# Altium footprint library CONN_HDR_2.54MM_ST.PcbLib: 159 footprints (part 3 of 13)
Each footprint in its own frame and in the unit in brackets; x right, y up, seen from the top. Pads: shape width x height; smd on the part's side, far side on the other; paste and mask are expansions set on the pad; w line width, h text height; cw(c..) or ccw(c..) is an arc to the next point about the centre after c.
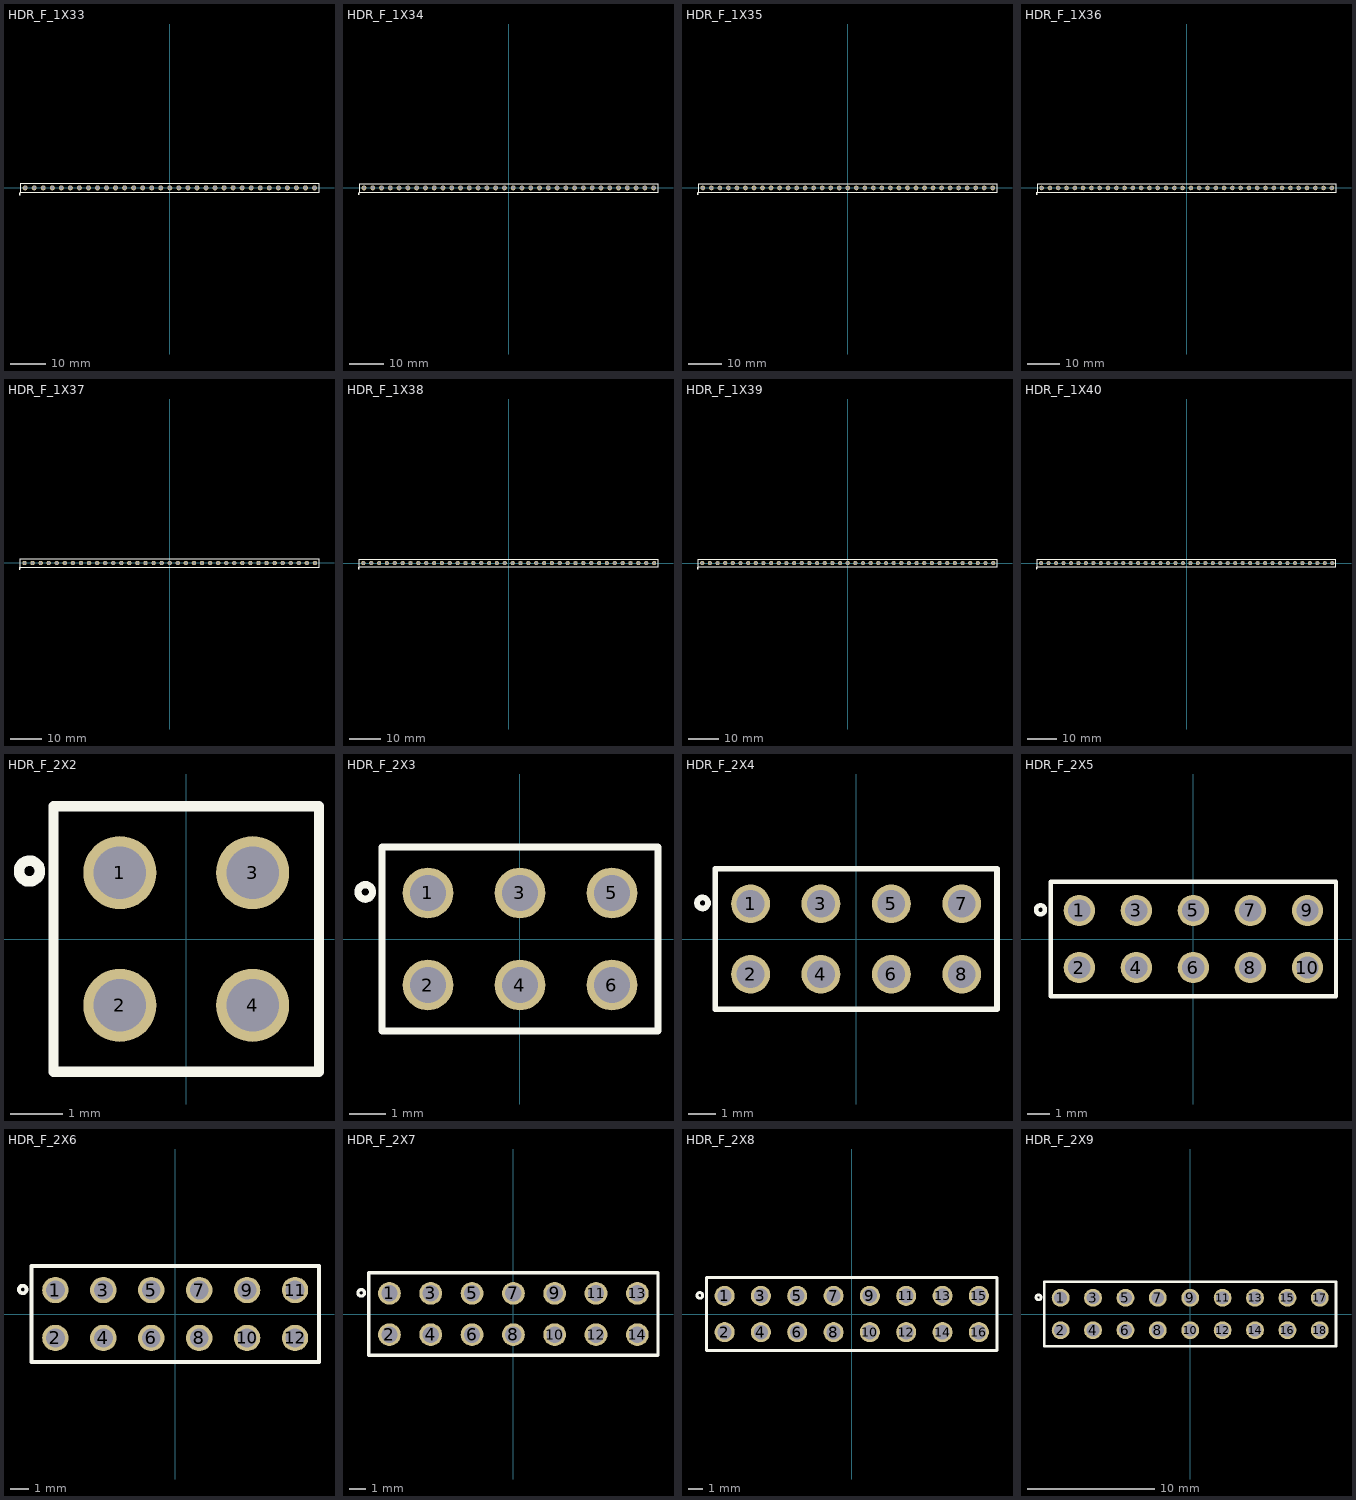
[diagram p2: the footprints below, top view; thin cyan lines are the x and y axes]

## HDR_F_1X33 [mm] "Connector; Header; 33 Position"
height 8
pads (33):
  round 1.4 / inner round 1.4 / far side oval 1.4x2.2 hole 1: 1(-40.64,0) 2(-38.1,0) 3(-35.56,0) 4(-33.02,0) 5(-30.48,0) 6(-27.94,0) 7(-25.4,0) 8(-22.86,0) 9(-20.32,0) 10(-17.78,0) 11(-15.24,0) 12(-12.7,0) 13(-10.16,0) 14(-7.62,0) 15(-5.08,0) 16(-2.54,0) 17(0,0) 18(2.54,0) 19(5.08,0) 20(7.62,0) 21(10.16,0) 22(12.7,0) 23(15.24,0) 24(17.78,0) 25(20.32,0) 26(22.86,0) 27(25.4,0) 28(27.94,0) 29(30.48,0) 30(33.02,0) 31(35.56,0) 32(38.1,0) 33(40.64,0)
TopOverlay:
  circle w0.2: c-42.17,-1.7 r0.2
  lines w0.2: -41.91,-1.27 -41.91,1.27 41.91,1.27 41.91,-1.27 -41.91,-1.27
3D body "PBS-1.stp": height 8.5, standoff -3.15, extent 39.37,-1.27 41.91,1.27
3D body "PBD-2.stp": height 8.5, standoff -3.15, extent -41.91,-1.27 -36.83,1.27
3D body "PBD-2.stp": height 8.5, standoff -3.15, extent -36.83,-1.27 -31.75,1.27
3D body "PBD-2.stp": height 8.5, standoff -3.15, extent -31.75,-1.27 -26.67,1.27
3D body "PBD-2.stp": height 8.5, standoff -3.15, extent -26.67,-1.27 -21.59,1.27
3D body "PBD-2.stp": height 8.5, standoff -3.15, extent -21.59,-1.27 -16.51,1.27
3D body "PBD-2.stp": height 8.5, standoff -3.15, extent -16.51,-1.27 -11.43,1.27
3D body "PBD-2.stp": height 8.5, standoff -3.15, extent -11.43,-1.27 -6.35,1.27
3D body "PBD-2.stp": height 8.5, standoff -3.15, extent -6.35,-1.27 -1.27,1.27
3D body "PBD-2.stp": height 8.5, standoff -3.15, extent -1.27,-1.27 3.81,1.27
3D body "PBD-2.stp": height 8.5, standoff -3.15, extent 3.81,-1.27 8.89,1.27
3D body "PBD-2.stp": height 8.5, standoff -3.15, extent 8.89,-1.27 13.97,1.27
3D body "PBD-2.stp": height 8.5, standoff -3.15, extent 13.97,-1.27 19.05,1.27
3D body "PBD-2.stp": height 8.5, standoff -3.15, extent 19.05,-1.27 24.13,1.27
3D body "PBD-2.stp": height 8.5, standoff -3.15, extent 24.13,-1.27 29.21,1.27
3D body "PBD-2.stp": height 8.5, standoff -3.15, extent 29.21,-1.27 34.29,1.27
3D body "PBD-2.stp": height 8.5, standoff -3.15, extent 34.29,-1.27 39.37,1.27

## HDR_F_1X34 [mm] "Connector; Header; 34 Position"
height 8
pads (34):
  round 1.4 / inner round 1.4 / far side oval 1.4x2.2 hole 1: 1(-41.91,0) 2(-39.37,0) 3(-36.83,0) 4(-34.29,0) 5(-31.75,0) 6(-29.21,0) 7(-26.67,0) 8(-24.13,0) 9(-21.59,0) 10(-19.05,0) 11(-16.51,0) 12(-13.97,0) 13(-11.43,0) 14(-8.89,0) 15(-6.35,0) 16(-3.81,0) 17(-1.27,0) 18(1.27,0) 19(3.81,0) 20(6.35,0) 21(8.89,0) 22(11.43,0) 23(13.97,0) 24(16.51,0) 25(19.05,0) 26(21.59,0) 27(24.13,0) 28(26.67,0) 29(29.21,0) 30(31.75,0) 31(34.29,0) 32(36.83,0) 33(39.37,0) 34(41.91,0)
TopOverlay:
  circle w0.2: c-43.44,-1.7 r0.2
  lines w0.2: -43.18,-1.27 43.18,-1.27 43.18,1.27 -43.18,1.27 -43.18,-1.27
3D body "PBD-2.stp": height 8.5, standoff -3.15, extent -43.18,-1.27 -38.1,1.27
3D body "PBD-2.stp": height 8.5, standoff -3.15, extent -38.1,-1.27 -33.02,1.27
3D body "PBD-2.stp": height 8.5, standoff -3.15, extent -33.02,-1.27 -27.94,1.27
3D body "PBD-2.stp": height 8.5, standoff -3.15, extent -27.94,-1.27 -22.86,1.27
3D body "PBD-2.stp": height 8.5, standoff -3.15, extent -22.86,-1.27 -17.78,1.27
3D body "PBD-2.stp": height 8.5, standoff -3.15, extent -17.78,-1.27 -12.7,1.27
3D body "PBD-2.stp": height 8.5, standoff -3.15, extent -12.7,-1.27 -7.62,1.27
3D body "PBD-2.stp": height 8.5, standoff -3.15, extent -7.62,-1.27 -2.54,1.27
3D body "PBD-2.stp": height 8.5, standoff -3.15, extent -2.54,-1.27 2.54,1.27
3D body "PBD-2.stp": height 8.5, standoff -3.15, extent 2.54,-1.27 7.62,1.27
3D body "PBD-2.stp": height 8.5, standoff -3.15, extent 7.62,-1.27 12.7,1.27
3D body "PBD-2.stp": height 8.5, standoff -3.15, extent 12.7,-1.27 17.78,1.27
3D body "PBD-2.stp": height 8.5, standoff -3.15, extent 17.78,-1.27 22.86,1.27
3D body "PBD-2.stp": height 8.5, standoff -3.15, extent 22.86,-1.27 27.94,1.27
3D body "PBD-2.stp": height 8.5, standoff -3.15, extent 27.94,-1.27 33.02,1.27
3D body "PBD-2.stp": height 8.5, standoff -3.15, extent 33.02,-1.27 38.1,1.27
3D body "PBD-2.stp": height 8.5, standoff -3.15, extent 38.1,-1.27 43.18,1.27

## HDR_F_1X35 [mm] "Connector; Header; 35 Position"
height 8
pads (35):
  round 1.4 / inner round 1.4 / far side oval 1.4x2.2 hole 1: 1(-43.18,0) 2(-40.64,0) 3(-38.1,0) 4(-35.56,0) 5(-33.02,0) 6(-30.48,0) 7(-27.94,0) 8(-25.4,0) 9(-22.86,0) 10(-20.32,0) 11(-17.78,0) 12(-15.24,0) 13(-12.7,0) 14(-10.16,0) 15(-7.62,0) 16(-5.08,0) 17(-2.54,0) 18(0,0) 19(2.54,0) 20(5.08,0) 21(7.62,0) 22(10.16,0) 23(12.7,0) 24(15.24,0) 25(17.78,0) 26(20.32,0) 27(22.86,0) 28(25.4,0) 29(27.94,0) 30(30.48,0) 31(33.02,0) 32(35.56,0) 33(38.1,0) 34(40.64,0) 35(43.18,0)
TopOverlay:
  circle w0.2: c-44.71,-1.7 r0.2
  lines w0.2: -44.45,-1.27 -44.45,1.27 44.45,1.27 44.45,-1.27 -44.45,-1.27
3D body "PBD-2.stp": height 8.5, standoff -3.15, extent 36.83,-1.27 41.91,1.27
3D body "PBD-2.stp": height 8.5, standoff -3.15, extent 31.75,-1.27 36.83,1.27
3D body "PBD-2.stp": height 8.5, standoff -3.15, extent 26.67,-1.27 31.75,1.27
3D body "PBD-2.stp": height 8.5, standoff -3.15, extent 21.59,-1.27 26.67,1.27
3D body "PBD-2.stp": height 8.5, standoff -3.15, extent 16.51,-1.27 21.59,1.27
3D body "PBD-2.stp": height 8.5, standoff -3.15, extent 11.43,-1.27 16.51,1.27
3D body "PBD-2.stp": height 8.5, standoff -3.15, extent 6.35,-1.27 11.43,1.27
3D body "PBD-2.stp": height 8.5, standoff -3.15, extent 1.27,-1.27 6.35,1.27
3D body "PBD-2.stp": height 8.5, standoff -3.15, extent -3.81,-1.27 1.27,1.27
3D body "PBD-2.stp": height 8.5, standoff -3.15, extent -8.89,-1.27 -3.81,1.27
3D body "PBD-2.stp": height 8.5, standoff -3.15, extent -13.97,-1.27 -8.89,1.27
3D body "PBD-2.stp": height 8.5, standoff -3.15, extent -19.05,-1.27 -13.97,1.27
3D body "PBD-2.stp": height 8.5, standoff -3.15, extent -24.13,-1.27 -19.05,1.27
3D body "PBD-2.stp": height 8.5, standoff -3.15, extent -29.21,-1.27 -24.13,1.27
3D body "PBD-2.stp": height 8.5, standoff -3.15, extent -34.29,-1.27 -29.21,1.27
3D body "PBD-2.stp": height 8.5, standoff -3.15, extent -39.37,-1.27 -34.29,1.27
3D body "PBD-2.stp": height 8.5, standoff -3.15, extent -44.45,-1.27 -39.37,1.27
3D body "PBS-1.stp": height 8.5, standoff -3.15, extent 41.91,-1.27 44.45,1.27

## HDR_F_1X36 [mm] "Connector; Header; 36 Position"
height 8
pads (36):
  round 1.4 / inner round 1.4 / far side oval 1.4x2.2 hole 1: 1(-44.45,0) 2(-41.91,0) 3(-39.37,0) 4(-36.83,0) 5(-34.29,0) 6(-31.75,0) 7(-29.21,0) 8(-26.67,0) 9(-24.13,0) 10(-21.59,0) 11(-19.05,0) 12(-16.51,0) 13(-13.97,0) 14(-11.43,0) 15(-8.89,0) 16(-6.35,0) 17(-3.81,0) 18(-1.27,0) 19(1.27,0) 20(3.81,0) 21(6.35,0) 22(8.89,0) 23(11.43,0) 24(13.97,0) 25(16.51,0) 26(19.05,0) 27(21.59,0) 28(24.13,0) 29(26.67,0) 30(29.21,0) 31(31.75,0) 32(34.29,0) 33(36.83,0) 34(39.37,0) 35(41.91,0) 36(44.45,0)
TopOverlay:
  circle w0.2: c-45.98,-1.7 r0.2
  lines w0.2: -45.72,-1.27 45.72,-1.27 45.72,1.27 -45.72,1.27 -45.72,-1.27
3D body "PBD-2.stp": height 8.5, standoff -3.15, extent -45.72,-1.27 -40.64,1.27
3D body "PBD-2.stp": height 8.5, standoff -3.15, extent -40.64,-1.27 -35.56,1.27
3D body "PBD-2.stp": height 8.5, standoff -3.15, extent -35.56,-1.27 -30.48,1.27
3D body "PBD-2.stp": height 8.5, standoff -3.15, extent -30.48,-1.27 -25.4,1.27
3D body "PBD-2.stp": height 8.5, standoff -3.15, extent -25.4,-1.27 -20.32,1.27
3D body "PBD-2.stp": height 8.5, standoff -3.15, extent -20.32,-1.27 -15.24,1.27
3D body "PBD-2.stp": height 8.5, standoff -3.15, extent -15.24,-1.27 -10.16,1.27
3D body "PBD-2.stp": height 8.5, standoff -3.15, extent -10.16,-1.27 -5.08,1.27
3D body "PBD-2.stp": height 8.5, standoff -3.15, extent -5.08,-1.27 0,1.27
3D body "PBD-2.stp": height 8.5, standoff -3.15, extent 0,-1.27 5.08,1.27
3D body "PBD-2.stp": height 8.5, standoff -3.15, extent 5.08,-1.27 10.16,1.27
3D body "PBD-2.stp": height 8.5, standoff -3.15, extent 10.16,-1.27 15.24,1.27
3D body "PBD-2.stp": height 8.5, standoff -3.15, extent 15.24,-1.27 20.32,1.27
3D body "PBD-2.stp": height 8.5, standoff -3.15, extent 20.32,-1.27 25.4,1.27
3D body "PBD-2.stp": height 8.5, standoff -3.15, extent 25.4,-1.27 30.48,1.27
3D body "PBD-2.stp": height 8.5, standoff -3.15, extent 30.48,-1.27 35.56,1.27
3D body "PBD-2.stp": height 8.5, standoff -3.15, extent 35.56,-1.27 40.64,1.27
3D body "PBD-2.stp": height 8.5, standoff -3.15, extent 40.64,-1.27 45.72,1.27

## HDR_F_1X37 [mm] "Connector; Header; 37 Position"
height 8
pads (37):
  round 1.4 / inner round 1.4 / far side oval 1.4x2.2 hole 1: 1(-45.72,0) 2(-43.18,0) 3(-40.64,0) 4(-38.1,0) 5(-35.56,0) 6(-33.02,0) 7(-30.48,0) 8(-27.94,0) 9(-25.4,0) 10(-22.86,0) 11(-20.32,0) 12(-17.78,0) 13(-15.24,0) 14(-12.7,0) 15(-10.16,0) 16(-7.62,0) 17(-5.08,0) 18(-2.54,0) 19(0,0) 20(2.54,0) 21(5.08,0) 22(7.62,0) 23(10.16,0) 24(12.7,0) 25(15.24,0) 26(17.78,0) 27(20.32,0) 28(22.86,0) 29(25.4,0) 30(27.94,0) 31(30.48,0) 32(33.02,0) 33(35.56,0) 34(38.1,0) 35(40.64,0) 36(43.18,0) 37(45.72,0)
TopOverlay:
  circle w0.2: c-47.25,-1.7 r0.2
  lines w0.2: -46.99,-1.27 46.99,-1.27 46.99,1.27 -46.99,1.27 -46.99,-1.27
3D body "PBS-1.stp": height 8.5, standoff -3.15, extent 44.45,-1.27 46.99,1.27
3D body "PBD-2.stp": height 8.5, standoff -3.15, extent -46.99,-1.27 -41.91,1.27
3D body "PBD-2.stp": height 8.5, standoff -3.15, extent -41.91,-1.27 -36.83,1.27
3D body "PBD-2.stp": height 8.5, standoff -3.15, extent -36.83,-1.27 -31.75,1.27
3D body "PBD-2.stp": height 8.5, standoff -3.15, extent -31.75,-1.27 -26.67,1.27
3D body "PBD-2.stp": height 8.5, standoff -3.15, extent -26.67,-1.27 -21.59,1.27
3D body "PBD-2.stp": height 8.5, standoff -3.15, extent -21.59,-1.27 -16.51,1.27
3D body "PBD-2.stp": height 8.5, standoff -3.15, extent -16.51,-1.27 -11.43,1.27
3D body "PBD-2.stp": height 8.5, standoff -3.15, extent -11.43,-1.27 -6.35,1.27
3D body "PBD-2.stp": height 8.5, standoff -3.15, extent -6.35,-1.27 -1.27,1.27
3D body "PBD-2.stp": height 8.5, standoff -3.15, extent -1.27,-1.27 3.81,1.27
3D body "PBD-2.stp": height 8.5, standoff -3.15, extent 3.81,-1.27 8.89,1.27
3D body "PBD-2.stp": height 8.5, standoff -3.15, extent 8.89,-1.27 13.97,1.27
3D body "PBD-2.stp": height 8.5, standoff -3.15, extent 13.97,-1.27 19.05,1.27
3D body "PBD-2.stp": height 8.5, standoff -3.15, extent 19.05,-1.27 24.13,1.27
3D body "PBD-2.stp": height 8.5, standoff -3.15, extent 24.13,-1.27 29.21,1.27
3D body "PBD-2.stp": height 8.5, standoff -3.15, extent 29.21,-1.27 34.29,1.27
3D body "PBD-2.stp": height 8.5, standoff -3.15, extent 34.29,-1.27 39.37,1.27
3D body "PBD-2.stp": height 8.5, standoff -3.15, extent 39.37,-1.27 44.45,1.27

## HDR_F_1X38 [mm] "Connector; Header; 38 Position"
height 8
pads (38):
  round 1.4 / inner round 1.4 / far side oval 1.4x2.2 hole 1: 1(-46.99,0) 2(-44.45,0) 3(-41.91,0) 4(-39.37,0) 5(-36.83,0) 6(-34.29,0) 7(-31.75,0) 8(-29.21,0) 9(-26.67,0) 10(-24.13,0) 11(-21.59,0) 12(-19.05,0) 13(-16.51,0) 14(-13.97,0) 15(-11.43,0) 16(-8.89,0) 17(-6.35,0) 18(-3.81,0) 19(-1.27,0) 20(1.27,0) 21(3.81,0) 22(6.35,0) 23(8.89,0) 24(11.43,0) 25(13.97,0) 26(16.51,0) 27(19.05,0) 28(21.59,0) 29(24.13,0) 30(26.67,0) 31(29.21,0) 32(31.75,0) 33(34.29,0) 34(36.83,0) 35(39.37,0) 36(41.91,0) 37(44.45,0) 38(46.99,0)
TopOverlay:
  circle w0.2: c-48.52,-1.7 r0.2
  lines w0.2: -48.26,-1.27 48.26,-1.27 48.26,1.27 -48.26,1.27 -48.26,-1.27
3D body "PBD-2.stp": height 8.5, standoff -3.15, extent 43.18,-1.27 48.26,1.27
3D body "PBD-2.stp": height 8.5, standoff -3.15, extent 38.1,-1.27 43.18,1.27
3D body "PBD-2.stp": height 8.5, standoff -3.15, extent 33.02,-1.27 38.1,1.27
3D body "PBD-2.stp": height 8.5, standoff -3.15, extent 27.94,-1.27 33.02,1.27
3D body "PBD-2.stp": height 8.5, standoff -3.15, extent 22.86,-1.27 27.94,1.27
3D body "PBD-2.stp": height 8.5, standoff -3.15, extent 17.78,-1.27 22.86,1.27
3D body "PBD-2.stp": height 8.5, standoff -3.15, extent 12.7,-1.27 17.78,1.27
3D body "PBD-2.stp": height 8.5, standoff -3.15, extent 7.62,-1.27 12.7,1.27
3D body "PBD-2.stp": height 8.5, standoff -3.15, extent 2.54,-1.27 7.62,1.27
3D body "PBD-2.stp": height 8.5, standoff -3.15, extent -2.54,-1.27 2.54,1.27
3D body "PBD-2.stp": height 8.5, standoff -3.15, extent -7.62,-1.27 -2.54,1.27
3D body "PBD-2.stp": height 8.5, standoff -3.15, extent -12.7,-1.27 -7.62,1.27
3D body "PBD-2.stp": height 8.5, standoff -3.15, extent -17.78,-1.27 -12.7,1.27
3D body "PBD-2.stp": height 8.5, standoff -3.15, extent -22.86,-1.27 -17.78,1.27
3D body "PBD-2.stp": height 8.5, standoff -3.15, extent -27.94,-1.27 -22.86,1.27
3D body "PBD-2.stp": height 8.5, standoff -3.15, extent -33.02,-1.27 -27.94,1.27
3D body "PBD-2.stp": height 8.5, standoff -3.15, extent -38.1,-1.27 -33.02,1.27
3D body "PBD-2.stp": height 8.5, standoff -3.15, extent -43.18,-1.27 -38.1,1.27
3D body "PBD-2.stp": height 8.5, standoff -3.15, extent -48.26,-1.27 -43.18,1.27

## HDR_F_1X39 [mm] "Connector; Header; 39 Position"
height 8
pads (39):
  round 1.4 / inner round 1.4 / far side oval 1.4x2.2 hole 1: 1(-48.26,0) 2(-45.72,0) 3(-43.18,0) 4(-40.64,0) 5(-38.1,0) 6(-35.56,0) 7(-33.02,0) 8(-30.48,0) 9(-27.94,0) 10(-25.4,0) 11(-22.86,0) 12(-20.32,0) 13(-17.78,0) 14(-15.24,0) 15(-12.7,0) 16(-10.16,0) 17(-7.62,0) 18(-5.08,0) 19(-2.54,0) 20(0,0) 21(2.54,0) 22(5.08,0) 23(7.62,0) 24(10.16,0) 25(12.7,0) 26(15.24,0) 27(17.78,0) 28(20.32,0) 29(22.86,0) 30(25.4,0) 31(27.94,0) 32(30.48,0) 33(33.02,0) 34(35.56,0) 35(38.1,0) 36(40.64,0) 37(43.18,0) 38(45.72,0) 39(48.26,0)
TopOverlay:
  circle w0.2: c-49.79,-1.7 r0.2
  lines w0.2: -49.53,-1.27 -49.53,1.27 49.53,1.27 49.53,-1.27 -49.53,-1.27
3D body "PBS-1.stp": height 8.5, standoff -3.15, extent 46.99,-1.27 49.53,1.27
3D body "PBD-2.stp": height 8.5, standoff -3.15, extent -49.53,-1.27 -44.45,1.27
3D body "PBD-2.stp": height 8.5, standoff -3.15, extent -44.45,-1.27 -39.37,1.27
3D body "PBD-2.stp": height 8.5, standoff -3.15, extent -39.37,-1.27 -34.29,1.27
3D body "PBD-2.stp": height 8.5, standoff -3.15, extent -34.29,-1.27 -29.21,1.27
3D body "PBD-2.stp": height 8.5, standoff -3.15, extent -29.21,-1.27 -24.13,1.27
3D body "PBD-2.stp": height 8.5, standoff -3.15, extent -24.13,-1.27 -19.05,1.27
3D body "PBD-2.stp": height 8.5, standoff -3.15, extent -19.05,-1.27 -13.97,1.27
3D body "PBD-2.stp": height 8.5, standoff -3.15, extent -13.97,-1.27 -8.89,1.27
3D body "PBD-2.stp": height 8.5, standoff -3.15, extent -8.89,-1.27 -3.81,1.27
3D body "PBD-2.stp": height 8.5, standoff -3.15, extent -3.81,-1.27 1.27,1.27
3D body "PBD-2.stp": height 8.5, standoff -3.15, extent 1.27,-1.27 6.35,1.27
3D body "PBD-2.stp": height 8.5, standoff -3.15, extent 6.35,-1.27 11.43,1.27
3D body "PBD-2.stp": height 8.5, standoff -3.15, extent 11.43,-1.27 16.51,1.27
3D body "PBD-2.stp": height 8.5, standoff -3.15, extent 16.51,-1.27 21.59,1.27
3D body "PBD-2.stp": height 8.5, standoff -3.15, extent 21.59,-1.27 26.67,1.27
3D body "PBD-2.stp": height 8.5, standoff -3.15, extent 26.67,-1.27 31.75,1.27
3D body "PBD-2.stp": height 8.5, standoff -3.15, extent 31.75,-1.27 36.83,1.27
3D body "PBD-2.stp": height 8.5, standoff -3.15, extent 36.83,-1.27 41.91,1.27
3D body "PBD-2.stp": height 8.5, standoff -3.15, extent 41.91,-1.27 46.99,1.27

## HDR_F_1X40 [mm] "Connector; Header; 40 Position"
height 8
pads (40):
  round 1.4 / inner round 1.4 / far side oval 1.4x2.2 hole 1: 1(-49.53,0) 2(-46.99,0) 3(-44.45,0) 4(-41.91,0) 5(-39.37,0) 6(-36.83,0) 7(-34.29,0) 8(-31.75,0) 9(-29.21,0) 10(-26.67,0) 11(-24.13,0) 12(-21.59,0) 13(-19.05,0) 14(-16.51,0) 15(-13.97,0) 16(-11.43,0) 17(-8.89,0) 18(-6.35,0) 19(-3.81,0) 20(-1.27,0) 21(1.27,0) 22(3.81,0) 23(6.35,0) 24(8.89,0) 25(11.43,0) 26(13.97,0) 27(16.51,0) 28(19.05,0) 29(21.59,0) 30(24.13,0) 31(26.67,0) 32(29.21,0) 33(31.75,0) 34(34.29,0) 35(36.83,0) 36(39.37,0) 37(41.91,0) 38(44.45,0) 39(46.99,0) 40(49.53,0)
TopOverlay:
  circle w0.2: c-51.06,-1.7 r0.2
  lines w0.2: -50.8,-1.27 50.8,-1.27 50.8,1.27 -50.8,1.27 -50.8,-1.27
3D body "PBD-2.stp": height 8.5, standoff -3.15, extent -50.8,-1.27 -45.72,1.27
3D body "PBD-2.stp": height 8.5, standoff -3.15, extent -45.72,-1.27 -40.64,1.27
3D body "PBD-2.stp": height 8.5, standoff -3.15, extent -40.64,-1.27 -35.56,1.27
3D body "PBD-2.stp": height 8.5, standoff -3.15, extent -35.56,-1.27 -30.48,1.27
3D body "PBD-2.stp": height 8.5, standoff -3.15, extent -30.48,-1.27 -25.4,1.27
3D body "PBD-2.stp": height 8.5, standoff -3.15, extent -25.4,-1.27 -20.32,1.27
3D body "PBD-2.stp": height 8.5, standoff -3.15, extent -20.32,-1.27 -15.24,1.27
3D body "PBD-2.stp": height 8.5, standoff -3.15, extent -15.24,-1.27 -10.16,1.27
3D body "PBD-2.stp": height 8.5, standoff -3.15, extent -10.16,-1.27 -5.08,1.27
3D body "PBD-2.stp": height 8.5, standoff -3.15, extent -5.08,-1.27 0,1.27
3D body "PBD-2.stp": height 8.5, standoff -3.15, extent 0,-1.27 5.08,1.27
3D body "PBD-2.stp": height 8.5, standoff -3.15, extent 5.08,-1.27 10.16,1.27
3D body "PBD-2.stp": height 8.5, standoff -3.15, extent 10.16,-1.27 15.24,1.27
3D body "PBD-2.stp": height 8.5, standoff -3.15, extent 15.24,-1.27 20.32,1.27
3D body "PBD-2.stp": height 8.5, standoff -3.15, extent 20.32,-1.27 25.4,1.27
3D body "PBD-2.stp": height 8.5, standoff -3.15, extent 25.4,-1.27 30.48,1.27
3D body "PBD-2.stp": height 8.5, standoff -3.15, extent 30.48,-1.27 35.56,1.27
3D body "PBD-2.stp": height 8.5, standoff -3.15, extent 35.56,-1.27 40.64,1.27
3D body "PBD-2.stp": height 8.5, standoff -3.15, extent 40.64,-1.27 45.72,1.27
3D body "PBD-2.stp": height 8.5, standoff -3.15, extent 45.72,-1.27 50.8,1.27

## HDR_F_2X2 [mm] "Connector; Header; 2x2 Position"
height 8
pads (4):
  round 1.4 / inner round 1.4 / far side oval 1.4x2.2 hole 1: 1(-1.27,1.27) 2(-1.27,-1.27) 3(1.27,1.27) 4(1.27,-1.27)
TopOverlay:
  circle w0.2: c-3,1.3 r0.2
  lines w0.2: -2.54,-2.54 -2.54,2.54 2.54,2.54 2.54,-2.54 -2.54,-2.54
3D body "PBD-2.stp": height 8.5, standoff -3.15, extent 0,-2.54 2.54,2.54
3D body "PBD-2.stp": height 8.5, standoff -3.15, extent -2.54,-2.54 0,2.54

## HDR_F_2X3 [mm] "Connector; Header; 3x2 Position"
height 8
pads (6):
  round 1.4 / inner round 1.4 / far side oval 1.4x2.2 hole 1: 1(-2.54,1.27) 2(-2.54,-1.27) 3(0,1.27) 4(0,-1.27) 5(2.54,1.27) 6(2.54,-1.27)
TopOverlay:
  circle w0.2: c-4.27,1.3 r0.2
  lines w0.2: -3.81,-2.54 3.81,-2.54 3.81,2.54 -3.81,2.54 -3.81,-2.54
3D body "PBD-2.stp": height 8.5, standoff -3.15, extent -1.27,-2.54 1.27,2.54
3D body "PBD-2.stp": height 8.5, standoff -3.15, extent -3.81,-2.54 -1.27,2.54
3D body "PBD-2.stp": height 8.5, standoff -3.15, extent 1.27,-2.54 3.81,2.54

## HDR_F_2X4 [mm] "Connector; Header; 4x2 Position"
height 8
pads (8):
  round 1.4 / inner round 1.4 / far side oval 1.4x2.2 hole 1: 1(-3.81,1.27) 2(-3.81,-1.27) 3(-1.27,1.27) 4(-1.27,-1.27) 5(1.27,1.27) 6(1.27,-1.27) 7(3.81,1.27) 8(3.81,-1.27)
TopOverlay:
  circle w0.2: c-5.54,1.3 r0.2
  lines w0.2: -5.08,-2.54 5.08,-2.54 5.08,2.54 -5.08,2.54 -5.08,-2.54
3D body "PBD-2.stp": height 8.5, standoff -3.15, extent 0,-2.54 2.54,2.54
3D body "PBD-2.stp": height 8.5, standoff -3.15, extent 2.54,-2.54 5.08,2.54
3D body "PBD-2.stp": height 8.5, standoff -3.15, extent -5.08,-2.54 -2.54,2.54
3D body "PBD-2.stp": height 8.5, standoff -3.15, extent -2.54,-2.54 0,2.54

## HDR_F_2X5 [mm] "Connector; Header; 5x2 Position"
height 8
pads (10):
  round 1.4 / inner round 1.4 / far side oval 1.4x2.2 hole 1: 1(-5.08,1.27) 2(-5.08,-1.27) 3(-2.54,1.27) 4(-2.54,-1.27) 5(0,1.27) 6(0,-1.27) 7(2.54,1.27) 8(2.54,-1.27) 9(5.08,1.27) 10(5.08,-1.27)
TopOverlay:
  circle w0.2: c-6.81,1.3 r0.2
  lines w0.2: -6.35,-2.54 6.35,-2.54 6.35,2.54 -6.35,2.54 -6.35,-2.54
3D body "PBD-2.stp": height 8.5, standoff -3.15, extent -3.81,-2.54 -1.27,2.54
3D body "PBD-2.stp": height 8.5, standoff -3.15, extent -6.35,-2.54 -3.81,2.54
3D body "PBD-2.stp": height 8.5, standoff -3.15, extent 1.27,-2.54 3.81,2.54
3D body "PBD-2.stp": height 8.5, standoff -3.15, extent -1.27,-2.54 1.27,2.54
3D body "PBD-2.stp": height 8.5, standoff -3.15, extent 3.81,-2.54 6.35,2.54

## HDR_F_2X6 [mm] "Connector; Header; 6x2 Position"
height 8
pads (12):
  round 1.4 / inner round 1.4 / far side oval 1.4x2.2 hole 1: 1(-6.35,1.27) 2(-6.35,-1.27) 3(-3.81,1.27) 4(-3.81,-1.27) 5(-1.27,1.27) 6(-1.27,-1.27) 7(1.27,1.27) 8(1.27,-1.27) 9(3.81,1.27) 10(3.81,-1.27) 11(6.35,1.27) 12(6.35,-1.27)
TopOverlay:
  circle w0.2: c-8.08,1.3 r0.2
  lines w0.2: -7.62,-2.54 7.62,-2.54 7.62,2.54 -7.62,2.54 -7.62,-2.54
3D body "PBD-2.stp": height 8.5, standoff -3.15, extent -5.08,-2.54 -2.54,2.54
3D body "PBD-2.stp": height 8.5, standoff -3.15, extent -7.62,-2.54 -5.08,2.54
3D body "PBD-2.stp": height 8.5, standoff -3.15, extent 0,-2.54 2.54,2.54
3D body "PBD-2.stp": height 8.5, standoff -3.15, extent -2.54,-2.54 0,2.54
3D body "PBD-2.stp": height 8.5, standoff -3.15, extent 5.08,-2.54 7.62,2.54
3D body "PBD-2.stp": height 8.5, standoff -3.15, extent 2.54,-2.54 5.08,2.54

## HDR_F_2X7 [mm] "Connector; Header; 7x2 Position"
height 10.5
pads (14):
  round 1.4 / inner round 1.4 / far side oval 1.4x2.2 hole 1: 1(-7.62,1.27) 2(-7.62,-1.27) 3(-5.08,1.27) 4(-5.08,-1.27) 5(-2.54,1.27) 6(-2.54,-1.27) 7(0,1.27) 8(0,-1.27) 9(2.54,1.27) 10(2.54,-1.27) 11(5.08,1.27) 12(5.08,-1.27) 13(7.62,1.27) 14(7.62,-1.27)
TopOverlay:
  circle w0.2: c-9.35,1.3 r0.2
  lines w0.2: -8.89,-2.54 8.89,-2.54 8.89,2.54 -8.89,2.54 -8.89,-2.54
3D body "PBD-2.stp": height 8.5, standoff -3.15, extent -8.89,-2.54 -6.35,2.54
3D body "PBD-2.stp": height 8.5, standoff -3.15, extent -6.35,-2.54 -3.81,2.54
3D body "PBD-2.stp": height 8.5, standoff -3.15, extent -3.81,-2.54 -1.27,2.54
3D body "PBD-2.stp": height 8.5, standoff -3.15, extent -1.27,-2.54 1.27,2.54
3D body "PBD-2.stp": height 8.5, standoff -3.15, extent 1.27,-2.54 3.81,2.54
3D body "PBD-2.stp": height 8.5, standoff -3.15, extent 3.81,-2.54 6.35,2.54
3D body "PBD-2.stp": height 8.5, standoff -3.15, extent 6.35,-2.54 8.89,2.54

## HDR_F_2X8 [mm] "Connector; Header; 8x2 Position"
height 8
pads (16):
  round 1.4 / inner round 1.4 / far side oval 1.4x2.2 hole 1: 1(-8.89,1.27) 2(-8.89,-1.27) 3(-6.35,1.27) 4(-6.35,-1.27) 5(-3.81,1.27) 6(-3.81,-1.27) 7(-1.27,1.27) 8(-1.27,-1.27) 9(1.27,1.27) 10(1.27,-1.27) 11(3.81,1.27) 12(3.81,-1.27) 13(6.35,1.27) 14(6.35,-1.27) 15(8.89,1.27) 16(8.89,-1.27)
TopOverlay:
  circle w0.2: c-10.62,1.3 r0.2
  lines w0.2: -10.16,-2.54 -10.16,2.54 10.16,2.54 10.16,-2.54 -10.16,-2.54
3D body "PBD-2.stp": height 8.5, standoff -3.15, extent 5.08,-2.54 7.62,2.54
3D body "PBD-2.stp": height 8.5, standoff -3.15, extent 7.62,-2.54 10.16,2.54
3D body "PBD-2.stp": height 8.5, standoff -3.15, extent 0,-2.54 2.54,2.54
3D body "PBD-2.stp": height 8.5, standoff -3.15, extent 2.54,-2.54 5.08,2.54
3D body "PBD-2.stp": height 8.5, standoff -3.15, extent -5.08,-2.54 -2.54,2.54
3D body "PBD-2.stp": height 8.5, standoff -3.15, extent -2.54,-2.54 0,2.54
3D body "PBD-2.stp": height 8.5, standoff -3.15, extent -10.16,-2.54 -7.62,2.54
3D body "PBD-2.stp": height 8.5, standoff -3.15, extent -7.62,-2.54 -5.08,2.54

## HDR_F_2X9 [mm] "Connector; Header; 9x2 Position"
height 8
pads (18):
  round 1.4 / inner round 1.4 / far side oval 1.4x2.2 hole 1: 1(-10.16,1.27) 2(-10.16,-1.27) 3(-7.62,1.27) 4(-7.62,-1.27) 5(-5.08,1.27) 6(-5.08,-1.27) 7(-2.54,1.27) 8(-2.54,-1.27) 9(0,1.27) 10(0,-1.27) 11(2.54,1.27) 12(2.54,-1.27) 13(5.08,1.27) 14(5.08,-1.27) 15(7.62,1.27) 16(7.62,-1.27) 17(10.16,1.27) 18(10.16,-1.27)
TopOverlay:
  circle w0.2: c-11.89,1.3 r0.2
  lines w0.2: -11.43,-2.54 -11.43,2.54 11.43,2.54 11.43,-2.54 -11.43,-2.54
3D body "PBD-2.stp": height 8.5, standoff -3.15, extent 8.89,-2.54 11.43,2.54
3D body "PBD-2.stp": height 8.5, standoff -3.15, extent -8.89,-2.54 -6.35,2.54
3D body "PBD-2.stp": height 8.5, standoff -3.15, extent -11.43,-2.54 -8.89,2.54
3D body "PBD-2.stp": height 8.5, standoff -3.15, extent -3.81,-2.54 -1.27,2.54
3D body "PBD-2.stp": height 8.5, standoff -3.15, extent -6.35,-2.54 -3.81,2.54
3D body "PBD-2.stp": height 8.5, standoff -3.15, extent 1.27,-2.54 3.81,2.54
3D body "PBD-2.stp": height 8.5, standoff -3.15, extent -1.27,-2.54 1.27,2.54
3D body "PBD-2.stp": height 8.5, standoff -3.15, extent 6.35,-2.54 8.89,2.54
3D body "PBD-2.stp": height 8.5, standoff -3.15, extent 3.81,-2.54 6.35,2.54